# Altium footprint library Sensor_Shield_V2.PcbLib: 14 footprints
Each footprint in its own frame and in the unit in brackets; x right, y up, seen from the top. Pads: shape width x height; smd on the part's side, far side on the other; paste and mask are expansions set on the pad; w line width, h text height; cw(c..) or ccw(c..) is an arc to the next point about the centre after c.
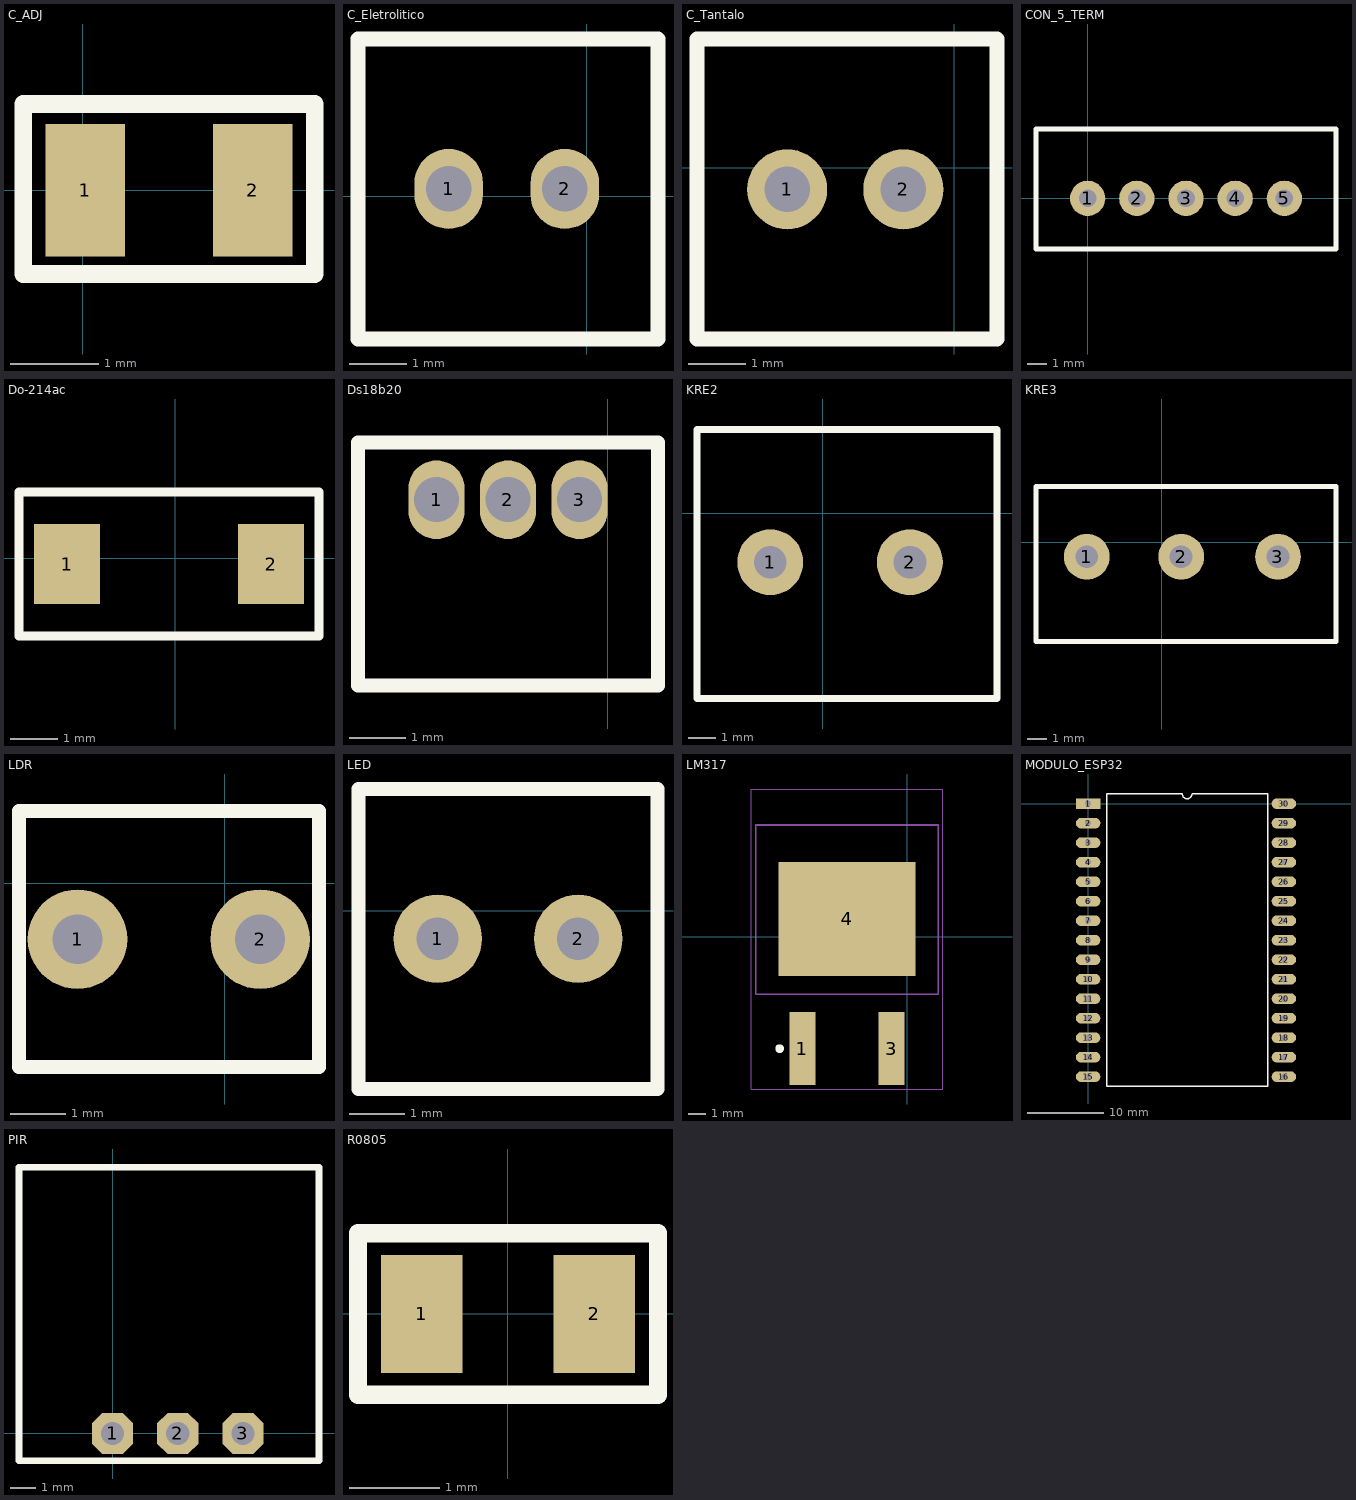
[diagram p0: the footprints below, top view; thin cyan lines are the x and y axes]

## C_ADJ [mm]
pads (2):
  rect 0.9x1.5 smd mask+0.05: 1(0.025,0) 2(1.925,0)
Top Overlay:
  lines w0.2: -0.676,-0.95 2.626,-0.95 2.626,0.975 -0.676,0.975 -0.676,-0.95
3D body "c0805.stp": height 1.34, standoff -0.06, extent -0.125,-0.725 2.075,0.725

## C_Eletrolitico [mm]
pads (2):
  oval 1.2x1.4 hole 0.8 mask+0.05: 1(-2.413,0.127) 2(-0.381,0.127)
Top Overlay:
  lines w0.254: -4,-2.5 -4,2.75 1.25,2.75 1.25,-2.5 -4,-2.5
3D body "User Library-CapAluRadial_D50H110P20.STEP": height 11, standoff -3, extent -3.898,-2.373 1.103,2.627

## C_Tantalo [mm]
pads (2):
  round 1.4 hole 0.8 mask+0.05: 1(-2.921,-0.381) 2(-0.889,-0.381)
Top Overlay:
  lines w0.254: -4.5,-3 0.75,-3 0.75,2.25 -4.5,2.25 -4.5,-3
3D body "User Library-CapAluRadial_D50H110P20.STEP": height 11, standoff -3, extent -4.406,-2.881 0.595,2.119

## CON_5_TERM [mm]
pads (5):
  round 1.8 hole 0.9 mask+0.05: 1(0,0) 2(2.5,0) 3(5,0) 4(7.5,0) 5(10,0)
Top Overlay:
  lines w0.254: -2.625,-2.575 12.625,-2.575 12.625,3.525 -2.625,3.525 -2.625,-2.575
3D body "User Library-JST B5B-XH-A.STEP": height 8, standoff -2.4, extent -2.45,-2.4 12.45,3.35
3D body: height 0.25, standoff 0, extent 3.7,0.6 3.7,0.6

## Do-214ac [mm]
pads (2):
  rect 1.4x1.7 smd: 1(-2.286,-0.127) 2(2.032,-0.127)
Top Overlay:
  lines w0.2: -3.302,-1.651 -3.302,1.397 3.048,1.397 3.048,-1.651 -3.302,-1.651
3D body "User Library-DO-214AC(SMA).STEP": height 0.14, standoff -2.14, extent -2.87,-1.524 2.616,1.27

## Ds18b20 [mm]
pads (3):
  oval 1x1.4 hole 0.8 mask+0.03: 1(-3.048,4.191) 2(-1.778,4.191) 3(-0.508,4.191)
Top Overlay:
  lines w0.254: -4.445,0.889 -4.445,5.207 0.889,5.207 0.889,0.889 -4.445,0.889
3D body "LM35DZ.STEP": height 10.6, standoff -7.3, extent -4.402,0.959 0.846,5.149

## KRE2 [mm]
pads (2):
  round 2.4 hole 1.2: 1(-1.905,-1.778) 2(3.175,-1.778)
Top Overlay:
  lines w0.254: -4.572,-6.731 6.35,-6.731 6.35,3.048 -4.572,3.048 -4.572,-6.731
3D body "Terminal block 2 vias passo 5.08.step": height 15, standoff -3.5, extent -4.476,-6.579 6.254,2.921

## KRE3 [mm]
pads (3):
  round 2.4 hole 1.2: 1(-3.937,-0.762) 2(1.016,-0.762) 3(6.096,-0.762)
Top Overlay:
  lines w0.254: -6.604,-5.207 -6.604,2.921 9.144,2.921 9.144,-5.207 -6.604,-5.207
3D body "Montagem1.STEP": height 11.73, standoff -2.57, extent -6.43,-5.08 8.97,2.72

## LDR [mm]
pads (2):
  round 1.8 hole 0.9 mask+0.05: 1(-2.667,-1.016) 2(0.635,-1.016)
Top Overlay:
  lines w0.254: -3.725,-3.325 -3.725,1.3 1.7,1.3 1.7,-3.325 -3.725,-3.325
3D body "LDR_pcb_TH.SLDPRT": height 3.02, standoff -2, extent -3.566,-3.166 1.534,1.134

## LED [mil]
pads (2):
  round 62.99 hole 30 mask+1.97: 1(-180,-20) 2(-80,-20)
Top Overlay:
  lines w10: -236.22,-126.97 -23.62,-126.97 -23.62,86.61 -236.22,86.61 -236.22,-126.97
3D body "5mm LED RED.SLDPRT": height 338.58, standoff -196.85, extent -230.27,-120.39 -29.74,80.4

## LM317 [mm] "D2-PAK, 3-Pads, Body 7,93x8,57mm (max), IPC Medium Density"
height 4.83
pads (3):
  rect 1.5x4.15 smd: 1(-5.969,-6.377) 3(-0.889,-6.377)
  rect 7.8x6.5 smd: 4(-3.429,1.023)
Top Overlay:
  circle w0.25: c-7.269,-6.377 r0.125
Mechanical 13:
  lines w0.1: -8.629,-3.277 1.771,-3.277 1.771,6.373 -8.629,6.373 -8.629,-3.277
Mechanical 15:
  lines w0.05: -8.879,-8.677 2.021,-8.677 2.021,8.423 -8.879,8.423 -8.879,-8.677
  lines w0.1: -3.929,-0.127 -2.929,-0.127 ; -3.429,-0.627 -3.429,0.373
3D body "to-263.STEP": height 4.3, standoff 0, extent -8.429,-9.53 1.571,6.35

## MODULO_ESP32 [mm]
pads (30):
  rect 3.2x1.4 hole 0.8 mask+0.05: 1(0,0)
  oval 3.2x1.4 hole 0.8 mask+0.05: 2(0,-2.54) 3(0,-5.08) 4(0,-7.62) 5(0,-10.16) 6(0,-12.7) 7(0,-15.24) 8(0,-17.78) 9(0,-20.32) 10(0,-22.86) 11(0,-25.4) 12(0,-27.94) 13(0,-30.48) 14(0,-33.02) 15(0,-35.56) 16(25.5,-35.56) 17(25.5,-33.02) 18(25.5,-30.48) 19(25.5,-27.94) 20(25.5,-25.4) 21(25.5,-22.86) 22(25.5,-20.32) 23(25.5,-17.78) 24(25.5,-15.24) 25(25.5,-12.7) 26(25.5,-10.16) 27(25.5,-7.62) 28(25.5,-5.08) 29(25.5,-2.54) 30(25.5,0)
Top Overlay:
  lines w0.2: 2.435,-36.83 23.365,-36.83 23.365,1.27 13.535,1.27 cw(c12.9,1.27) 12.265,1.27 2.435,1.27 2.435,-36.83
3D body "ESP-32_v1.STEP": height 7.2, standoff -5.2, extent -1.55,-40.95 26.95,9.98

## PIR [mm]
pads (3):
  oct 1.6x1.6 hole 0.9: 1(0,0) 2(2.54,0) 3(5.08,0)
Top Overlay:
  lines w0.254: -3.643,-1.062 8.041,-1.062 8.041,10.368 -3.643,10.368 -3.643,-1.062
3D body "hc sr505 movement sensor.SLDPRT": height 36, standoff -3.85, extent -3.4,-0.92 7.8,10.27

## R0805 [mm]
pads (2):
  rect 0.9x1.3 smd mask+0.05: 1(-0.95,0) 2(0.95,0)
Top Overlay:
  lines w0.2: -1.651,-0.889 1.651,-0.889 1.651,0.889 -1.651,0.889 -1.651,-0.889
3D body "R0805.STEP": height 0.46, standoff -0.01, extent -1,-0.625 1,0.625